# Altium footprint library KK36.PcbLib: 1 footprints
Each footprint in its own frame and in the unit in brackets; x right, y up, seen from the top. Pads: shape width x height; smd on the part's side, far side on the other; paste and mask are expansions set on the pad; w line width, h text height; cw(c..) or ccw(c..) is an arc to the next point about the centre after c.
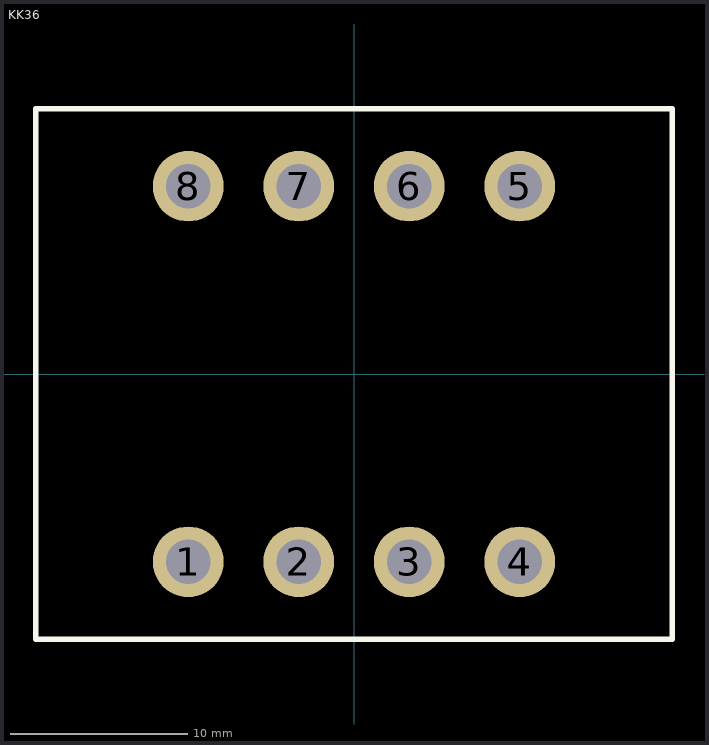
[diagram p0: the footprint, top view; thin cyan lines are the x and y axes]

## KK36 [mm]
pads (8):
  round 4 hole 2.5: 1(-9.375,-10.625) 2(-3.125,-10.625) 3(3.125,-10.625) 4(9.375,-10.625) 5(9.375,10.625) 6(3.125,10.625) 7(-3.125,10.625) 8(-9.375,10.625)
Top Overlay:
  lines w0.3: -18,-15 -18,15 18,15 18,-15 -18,-15
3D body: height 29, standoff 0, extent -18,-15 18,15